# EAGLE library part 68713314022 (library Eagle_FPC_CONNECTOR_AND_FFC_CAB (rev18c))
WR-FPC 0.5mm SMT ZIF Horizontal Top Contact, 33 Pins=>Code : Con_FPC_ZIF_0.50_68713314022 <http://katalog.we-online.de/media/images/eican/Con_FPC_ZIF_0.50_6871xx14022_pf2.jpg> Details see: http://katalog.we-online.de/en/em/687_1xx_140_22 Created 2014-07-09, Karrer Zheng 2014 (C) Würth Elektronik
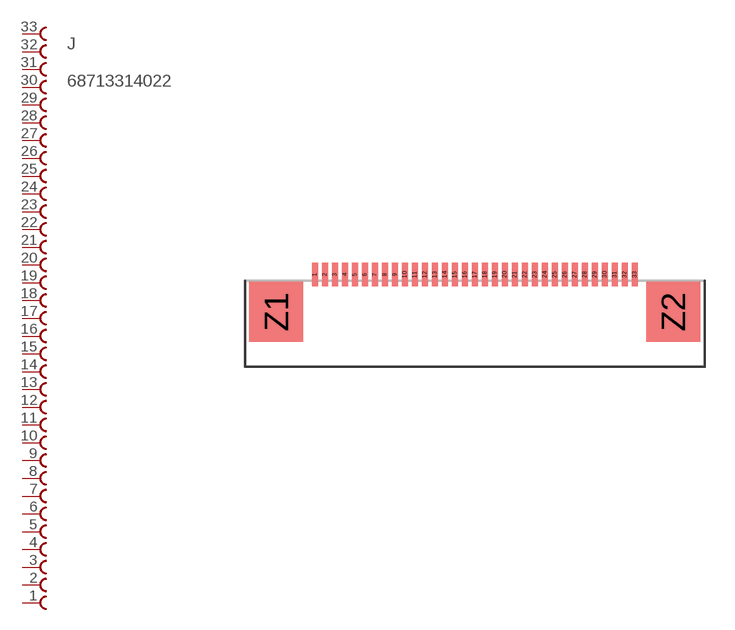
[diagram p30: symbol with the pads of 68713314022; footprint 68713314022]

Designator prefix J

## 68713314022  [68713314022]
1  33  pas
2  32  pas
3  31  pas
4  30  pas
5  29  pas
6  28  pas
7  27  pas
8  26  pas
9  25  pas
10  24  pas
11  23  pas
12  22  pas
13  21  pas
14  20  pas
15  19  pas
16  18  pas
17  17  pas
18  16  pas
19  15  pas
20  14  pas
21  13  pas
22  12  pas
23  11  pas
24  10  pas
25  9  pas
26  8  pas
27  7  pas
28  6  pas
29  5  pas
30  4  pas
31  3  pas
32  2  pas
33  1  pas

## Footprint 68713314022 (pad centres in mm)
WR-FPC 0.5mm SMT ZIF Horizontal Top Contact, 33 Pins
smd 0.3 x 1.2: 1 -8.25,1.86; 2 -7.75,1.86; 3 -7.25,1.86; 4 -6.75,1.86; 5 -6.25,1.86; 6 -5.75,1.86; 7 -5.25,1.86; 8 -4.75,1.86; 9 -4.25,1.86; 10 -3.75,1.86; 11 -3.25,1.86; 12 -2.75,1.86; 13 -2.25,1.86; 14 -1.75,1.86; 15 -1.25,1.86; 16 -0.75,1.86; 17 -0.25,1.86; 18 0.25,1.86; 19 0.75,1.86; 20 1.25,1.86; 21 1.75,1.86; 22 2.25,1.86; 23 2.75,1.86; 24 3.25,1.86; 25 3.75,1.86; 26 4.25,1.86; 27 4.75,1.86; 28 5.25,1.86; 29 5.75,1.86; 30 6.25,1.86; 31 6.75,1.86; 32 7.25,1.86; 33 7.75,1.86
smd 2.7 x 3: Z1 -10.18,0; Z2 9.68,0